# Altium footprint library PcbLib1.PcbLib: 3 footprints
Each footprint in its own frame and in the unit in brackets; x right, y up, seen from the top. Pads: shape width x height; smd on the part's side, far side on the other; paste and mask are expansions set on the pad; w line width, h text height; cw(c..) or ccw(c..) is an arc to the next point about the centre after c.
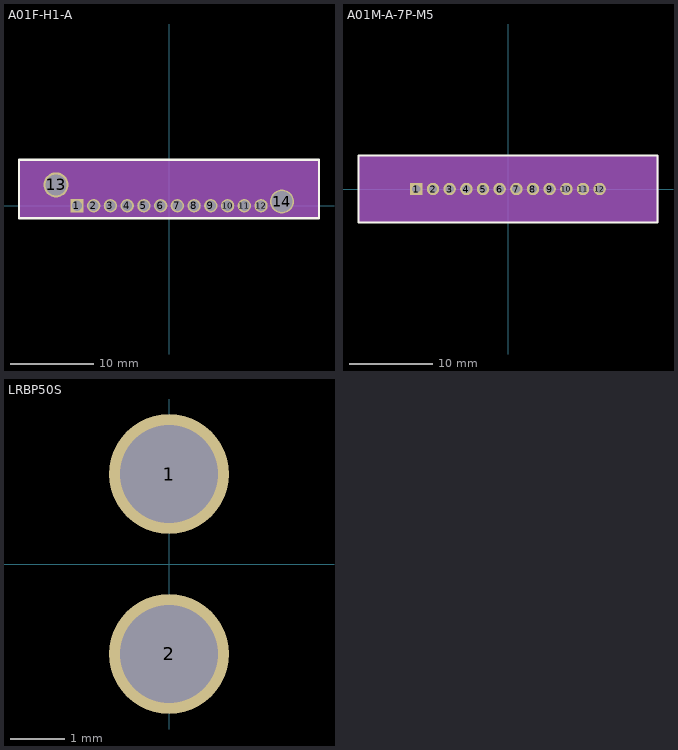
[diagram p0: the footprints below, top view; thin cyan lines are the x and y axes]

## A01F-H1-A [mm]
pads (14):
  rect 1.6x1.6 hole 1.2: 1(-11,0)
  round 1.6 hole 1.2: 2(-9,0) 3(-7,0) 4(-5,0) 5(-3,0) 6(-1,0) 7(1,0) 8(3,0) 9(5,0) 10(7,0) 11(9,0) 12(11,0)
  round 3 hole 2.5: 13(-13.5,2.5)
  round 2.85 hole 2.5: 14(13.5,0.5)
Top Overlay:
  lines w0.254: -17.925,-1.5 17.925,-1.5 17.925,5.5 -17.925,5.5 -17.925,-1.5
Top Paste:
  circle w0.254: c-10.922,1.27 r0.18
Mechanical 15:
  region: 17.78,-1.397 -17.78,-1.397 -17.78,5.461 17.78,5.461
3D body "Pin_Female.SLDPRT": height 1.7, standoff -7, extent -16.5,-1 16.5,5.5

## A01M-A-7P-M5 [mm]
pads (12):
  rect 1.5x1.5 hole 1: 1(-11,0)
  round 1.5 hole 1: 2(-9,0) 3(-7,0) 4(-5,0) 5(-3,0) 6(-1,0) 7(1,0) 8(3,0) 9(5,0) 10(7,0) 11(9,0) 12(11,0)
Top Overlay:
  lines w0.254: -17.925,-4 17.925,-4 17.925,4 -17.925,4 -17.925,-4
Top Paste:
  circle w0.254: c-10.922,1.27 r0.18
Mechanical 15:
  region: 18,-4 -18,-4 -18,4 18,4
3D body "Pin_Male.STEP": height 1, standoff -11.95, extent -14.825,-3.95 14.825,1.55

## LRBP50S [mm] "Laser Robotic Battery Pin 50 mm Straight"
pads (2):
  round 2.2 hole 1.8 unplated: 1(0,1.65) 2(0,-1.65)
3D body "LRBP50S.STEP": height 1.8, standoff -50, extent -0.6,-4 0.6,4